# Altium footprint library RES.PcbLib: 27 footprints (part 2 of 2)
Each footprint in its own frame and in the unit in brackets; x right, y up, seen from the top. Pads: shape width x height; smd on the part's side, far side on the other; paste and mask are expansions set on the pad; w line width, h text height; cw(c..) or ccw(c..) is an arc to the next point about the centre after c.
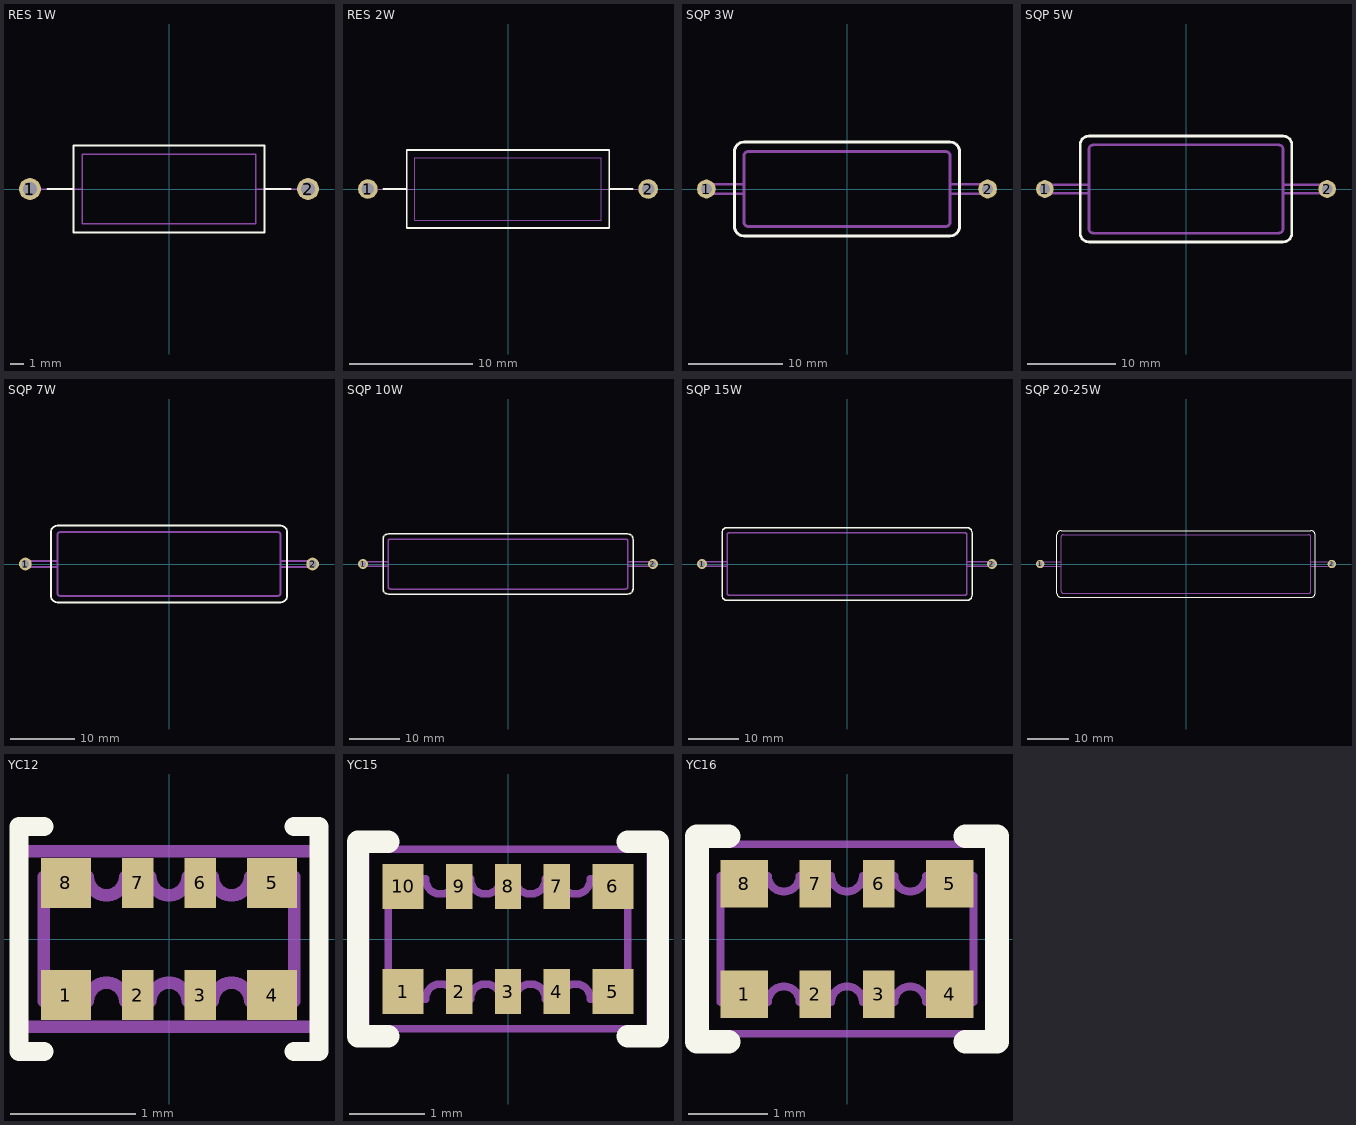
[diagram p1: the footprints below, top view; thin cyan lines are the x and y axes]

## RES 1W [mm]
height 5.5
pads (2):
  round 1.6 hole 1: 1(-10.16,0) 2(10.16,0)
Top Overlay:
  lines w0.15: -8.89,0 -6.985,0 ; 6.985,0 8.89,0 ; -6.985,-3.175 -6.985,3.175 6.985,3.175 6.985,-3.175 -6.985,-3.175
Mechanical 1:
  lines w0.1: -10.16,0 -6.35,0 ; 6.35,0 10.16,0 ; -6.35,-2.54 -6.35,2.54 6.35,2.54 6.35,-2.54 -6.35,-2.54
3D body: height 5.19, standoff 0.2, extent -6.5,-2.5 6.5,2.497

## RES 2W [mm]
height 5.5
pads (2):
  round 1.6 hole 1: 1(-11.43,0) 2(11.43,0)
Top Overlay:
  lines w0.15: -10.16,0 -8.255,0 ; 8.255,0 10.16,0 ; -8.255,-3.175 -8.255,3.175 8.255,3.175 8.255,-3.175 -8.255,-3.175
Mechanical 1:
  lines w0.1: -11.43,0 -7.62,0 ; 7.62,0 11.43,0 ; -7.62,-2.54 -7.62,2.54 7.62,2.54 7.62,-2.54 -7.62,-2.54
3D body: height 5.19, standoff 0.2, extent -8,-2.496 8,2.5

## SQP 3W [mm]
height 8
pads (2):
  round 2 hole 1.2: 1(-15,0) 2(15,0)
Top Overlay:
  lines w0.3: -12,-4 ccw(c-11,-4) -11,-5 11,-5 ccw(c11,-4) 12,-4 12,4 ccw(c11,4) 11,5 -11,5 ccw(c-11,4) -12,4 -12,-4
Mechanical 1:
  lines w0.3: -11,-0.5 -15,-0.5 cw(c-15,0) -15,0.5 -11,0.5 ; 11,-0.5 15,-0.5 ccw(c15,0) 15,0.5 11,0.5 ; -11,-3.5 ccw(c-10.5,-3.5) -10.5,-4 10.5,-4 ccw(c10.5,-3.5) 11,-3.5 11,3.5 ccw(c10.5,3.5) 10.5,4 -10.5,4 ccw(c-10.5,3.5) -11,3.5 -11,-3.5
3D body: height 8, standoff 0.1, extent -11,-4 11,4
3D body: height 4.5, standoff -2.5, extent -15.5,-0.5 -10.491,0.5
3D body: height 4.5, standoff -2.5, extent 10.491,-0.5 15.5,0.5

## SQP 5W [mm]
height 10
pads (2):
  round 2 hole 1.2: 1(-16,0) 2(16,0)
Top Overlay:
  lines w0.3: -12,-5 ccw(c-11,-5) -11,-6 11,-6 ccw(c11,-5) 12,-5 12,5 ccw(c11,5) 11,6 -11,6 ccw(c-11,5) -12,5 -12,-5
Mechanical 1:
  lines w0.3: -11,-0.5 -16,-0.5 cw(c-16,0) -16,0.5 -11,0.5 ; 11,-0.5 16,-0.5 ccw(c16,0) 16,0.5 11,0.5 ; -11,-4.5 ccw(c-10.5,-4.5) -10.5,-5 10.5,-5 ccw(c10.5,-4.5) 11,-4.5 11,4.5 ccw(c10.5,4.5) 10.5,5 -10.5,5 ccw(c-10.5,4.5) -11,4.5 -11,-4.5
3D body: height 5.26, standoff -3.26, extent 10.489,-0.5 16.5,0.5
3D body: height 5.26, standoff -3.26, extent -16.5,-0.5 -10.489,0.5
3D body: height 10, standoff 0.1, extent -11,-5 11,5

## SQP 7W [mm]
height 10
pads (2):
  round 2 hole 1.2: 1(-22.5,0) 2(22.5,0)
Top Overlay:
  lines w0.3: -18.5,-5 ccw(c-17.5,-5) -17.5,-6 17.5,-6 ccw(c17.5,-5) 18.5,-5 18.5,5 ccw(c17.5,5) 17.5,6 -17.5,6 ccw(c-17.5,5) -18.5,5 -18.5,-5
Mechanical 1:
  lines w0.3: -17.5,-0.5 -22.5,-0.5 cw(c-22.5,0) -22.5,0.5 -17.5,0.5 ; 17.5,-0.5 22.5,-0.5 ccw(c22.5,0) 22.5,0.5 17.5,0.5 ; -17.5,-4.5 ccw(c-17,-4.5) -17,-5 17,-5 ccw(c17,-4.5) 17.5,-4.5 17.5,4.5 ccw(c17,4.5) 17,5 -17,5 ccw(c-17,4.5) -17.5,4.5 -17.5,-4.5
3D body: height 5.26, standoff -3.26, extent 16.989,-0.5 23,0.5
3D body: height 5.26, standoff -3.26, extent -23,-0.5 -16.989,0.5
3D body: height 10, standoff 0.1, extent -17.5,-5 17.5,5

## SQP 10W [mm]
height 10
pads (2):
  round 2 hole 1.2: 1(-29,0) 2(29,0)
Top Overlay:
  lines w0.3: -25,-5 ccw(c-24,-5) -24,-6 24,-6 ccw(c24,-5) 25,-5 25,5 ccw(c24,5) 24,6 -24,6 ccw(c-24,5) -25,5 -25,-5
Mechanical 1:
  lines w0.3: -24,-0.5 -29,-0.5 cw(c-29,0) -29,0.5 -24,0.5 ; 24,-0.5 29,-0.5 ccw(c29,0) 29,0.5 24,0.5 ; -24,-4.5 ccw(c-23.5,-4.5) -23.5,-5 23.5,-5 ccw(c23.5,-4.5) 24,-4.5 24,4.5 ccw(c23.5,4.5) 23.5,5 -23.5,5 ccw(c-23.5,4.5) -24,4.5 -24,-4.5
3D body: height 5.26, standoff -3.26, extent 23.489,-0.5 29.5,0.5
3D body: height 5.26, standoff -3.26, extent -29.5,-0.5 -23.489,0.5
3D body: height 10, standoff 0.1, extent -24,-5 24,5

## SQP 15W [mm]
height 12.5
pads (2):
  round 2 hole 1.2: 1(-29,0) 2(29,0)
Top Overlay:
  lines w0.3: -25,-6.25 ccw(c-24,-6.25) -24,-7.25 24,-7.25 ccw(c24,-6.25) 25,-6.25 25,6.25 ccw(c24,6.25) 24,7.25 -24,7.25 ccw(c-24,6.25) -25,6.25 -25,-6.25
Mechanical 1:
  lines w0.3: -24,-0.5 -29,-0.5 cw(c-29,0) -29,0.5 -24,0.5 ; 24,-0.5 29,-0.5 ccw(c29,0) 29,0.5 24,0.5 ; -24,-5.75 ccw(c-23.5,-5.75) -23.5,-6.25 23.5,-6.25 ccw(c23.5,-5.75) 24,-5.75 24,5.75 ccw(c23.5,5.75) 23.5,6.25 -23.5,6.25 ccw(c-23.5,5.75) -24,5.75 -24,-5.75
3D body: height 12.5, standoff 0.1, extent -24,-6.25 24,6.25
3D body: height 6.26, standoff -2.26, extent -29.5,-0.5 -23.489,0.5
3D body: height 6.26, standoff -2.26, extent 23.489,-0.5 29.5,0.5

## SQP 20-25W [mm]
height 14
pads (2):
  round 2 hole 1.2: 1(-35,0) 2(35,0)
Top Overlay:
  lines w0.3: -31,-7 ccw(c-30,-7) -30,-8 30,-8 ccw(c30,-7) 31,-7 31,7 ccw(c30,7) 30,8 -30,8 ccw(c-30,7) -31,7 -31,-7
Mechanical 1:
  lines w0.3: -30,-0.5 -35,-0.5 cw(c-35,0) -35,0.5 -30,0.5 ; 30,-0.5 35,-0.5 ccw(c35,0) 35,0.5 30,0.5 ; -30,-6.5 ccw(c-29.5,-6.5) -29.5,-7 29.5,-7 ccw(c29.5,-6.5) 30,-6.5 30,6.5 ccw(c29.5,6.5) 29.5,7 -29.5,7 ccw(c-29.5,6.5) -30,6.5 -30,-6.5
3D body: height 6.26, standoff -2.26, extent 29.489,-0.5 35.5,0.5
3D body: height 6.26, standoff -2.26, extent -35.5,-0.5 -29.489,0.5
3D body: height 14, standoff 0.1, extent -30,-7 30,7

## YC12 [mm]
pads (8):
  rect 0.4x0.4 smd: 1(-0.825,-0.45) 4(0.825,-0.45) 5(0.825,0.45) 8(-0.825,0.45)
  rect 0.25x0.4 smd: 2(-0.25,-0.45) 3(0.25,-0.45) 6(0.25,0.45) 7(-0.25,0.45)
Top Overlay:
  lines w0.15: -1,-0.9 -1.2,-0.9 -1.2,0.9 -1,0.9 ; 1,-0.9 1.2,-0.9 1.2,0.9 1,0.9
Mechanical 1:
  lines w0.1: -1,-0.5 -1,0.5 -0.65,0.5 ccw(c-0.5,0.5) -0.35,0.5 -0.15,0.5 ccw(c0,0.5) 0.15,0.5 0.35,0.5 ccw(c0.5,0.5) 0.65,0.5 1,0.5 1,-0.5 0.65,-0.5 ccw(c0.5,-0.5) 0.35,-0.5 0.15,-0.5 ccw(c0,-0.5) -0.15,-0.5 -0.35,-0.5 ccw(c-0.5,-0.5) -0.65,-0.5 -1,-0.5
Mechanical 5:
  lines w0.1: -1.2,-0.7 1.2,-0.7 1.2,0.7 -1.2,0.7 -1.2,-0.7
  text ".Designator" at -1,-0.5 h0.8
Mechanical 6:
  lines w0.1: -1.2,-0.7 -1.2,0.7 1.2,0.7 1.2,-0.7 -1.2,-0.7
  text ".Comment" at -1,-0.5 h0.8
3D body: height 0.5, standoff 0, extent -0.375,0.288 -0.125,0.513
3D body: height 0.5, standoff 0, extent -1,0.288 -0.65,0.513
3D body: height 0.45, standoff 0.05, extent -1,-0.4 1,0.4
3D body: height 0.5, standoff 0, extent 0.65,-0.513 1,-0.288
3D body: height 0.5, standoff 0, extent 0.125,-0.513 0.375,-0.288
3D body: height 0.5, standoff 0, extent -1,-0.513 -0.65,-0.288
3D body: height 0.5, standoff 0, extent -0.375,-0.513 -0.125,-0.288
3D body: height 0.5, standoff 0, extent 0.65,0.288 1,0.513
3D body: height 0.5, standoff 0, extent 0.125,0.288 0.375,0.513

## YC15 [mm]
pads (10):
  rect 0.55x0.6 smd: 1(-1.4,-0.7) 5(1.4,-0.7) 6(1.4,0.7) 10(-1.4,0.7)
  rect 0.35x0.6 smd: 2(-0.65,-0.7) 3(0,-0.7) 4(0.65,-0.7) 7(0.65,0.7) 8(0,0.7) 9(-0.65,0.7)
Top Overlay:
  lines w0.3: -1.6,-1.3 -2,-1.3 -2,1.3 -1.6,1.3 ; 1.6,-1.3 2,-1.3 2,1.3 1.6,1.3
Mechanical 1:
  lines w0.1: -1.6,-0.8 -1.1,-0.8 cw(c-0.9,-0.8) -0.7,-0.8 -0.5,-0.8 cw(c-0.3,-0.8) -0.1,-0.8 0.1,-0.8 cw(c0.3,-0.8) 0.5,-0.8 0.7,-0.8 cw(c0.9,-0.8) 1.1,-0.8 1.6,-0.8 1.6,0.8 1.1,0.8 cw(c0.9,0.8) 0.7,0.8 0.5,0.8 cw(c0.3,0.8) 0.1,0.8 -0.1,0.8 cw(c-0.3,0.8) -0.5,0.8 -0.7,0.8 cw(c-0.9,0.8) -1.1,0.8 -1.6,0.8 -1.6,-0.8
Mechanical 5:
  lines w0.1: -1.9,-1.2 -1.9,1.2 1.9,1.2 1.9,-1.2 -1.9,-1.2
  text ".Designator" at -1.6,-0.8 h1.5
Mechanical 6:
  lines w0.1: -1.9,-1.2 1.9,-1.2 1.9,1.2 -1.9,1.2 -1.9,-1.2
  text ".Comment" at -1.6,-0.8 h1.5
3D body: height 0.5, standoff 0, extent 0.45,-0.8 0.85,-0.5
3D body: height 0.5, standoff 0, extent 0.45,0.5 0.85,0.8
3D body: height 0.5, standoff 0, extent -0.2,-0.8 0.2,-0.5
3D body: height 0.5, standoff 0, extent -0.2,0.5 0.2,0.8
3D body: height 0.5, standoff 0, extent -0.85,-0.8 -0.45,-0.5
3D body: height 0.5, standoff 0, extent -0.85,0.5 -0.45,0.8
3D body: height 0.5, standoff 0, extent 1.1,0.5 1.65,0.8
3D body: height 0.5, standoff 0, extent 1.1,-0.8 1.65,-0.5
3D body: height 0.5, standoff 0, extent -1.65,-0.8 -1.1,-0.5
3D body: height 0.5, standoff 0, extent -1.65,0.5 -1.1,0.8
3D body: height 0.45, standoff 0.05, extent -1.6,-0.6 1.6,0.6

## YC16 [mm]
height 0.5
pads (8):
  rect 0.6x0.6 smd: 1(-1.3,-0.7) 4(1.3,-0.7) 5(1.3,0.7) 8(-1.3,0.7)
  rect 0.4x0.6 smd: 2(-0.4,-0.7) 3(0.4,-0.7) 6(0.4,0.7) 7(-0.4,0.7)
Top Overlay:
  lines w0.3: -1.5,-1.3 -1.9,-1.3 -1.9,1.3 -1.5,1.3 ; 1.5,-1.3 1.9,-1.3 1.9,1.3 1.5,1.3
Mechanical 1:
  lines w0.1: -1.6,-0.8 -1.6,0.8 -1,0.8 ccw(c-0.8,0.8) -0.6,0.8 -0.2,0.8 ccw(c0,0.8) 0.2,0.8 0.6,0.8 ccw(c0.8,0.8) 1,0.8 1.6,0.8 1.6,-0.8 1,-0.8 ccw(c0.8,-0.8) 0.6,-0.8 0.2,-0.8 ccw(c0,-0.8) -0.2,-0.8 -0.6,-0.8 ccw(c-0.8,-0.8) -1,-0.8 -1.6,-0.8
Mechanical 5:
  lines w0.1: -1.8,-1.2 1.8,-1.2 1.8,1.2 -1.8,1.2 -1.8,-1.2
  text ".Designator" at -1.5,-0.8 h1.5
Mechanical 6:
  lines w0.1: -1.8,-1.2 -1.8,1.2 1.8,1.2 1.8,-1.2 -1.8,-1.2
  text ".Comment" at -1.5,-0.8 h1.5
3D body: height 0.5, standoff 0, extent -0.6,0.5 -0.2,0.8
3D body: height 0.5, standoff 0, extent 0.2,0.5 0.6,0.8
3D body: height 0.5, standoff 0, extent 0.2,-0.8 0.6,-0.5
3D body: height 0.5, standoff 0, extent -0.6,-0.8 -0.2,-0.5
3D body: height 0.5, standoff 0, extent -1.55,0.5 -1,0.8
3D body: height 0.45, standoff 0.05, extent -1.6,-0.6 1.6,0.6
3D body: height 0.5, standoff 0, extent -1.55,-0.8 -1,-0.5
3D body: height 0.5, standoff 0, extent 1,-0.8 1.55,-0.5
3D body: height 0.5, standoff 0, extent 1,0.5 1.55,0.8